# Altium schematic symbol library 18125C225KAT2A.SchLib: 2 symbols
Pins are listed as number, name and electrical type; pins without a type are passive.

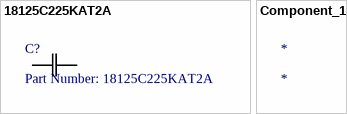
[diagram p0: symbols 18125C225KAT2A to Component_1]

## 18125C225KAT2A
designator C?, comment Part Number: 18125C225KAT2A
No Description Available; Vendor: AVX Corporation; Built_By: EMA_UL_Team; Type: DEV; Manufacturer_Part_Number: 18125C225KAT2A; Copyright: Copyright (C) 2018 Accelerated Designs. All rights reserved; RefDes: RefDes; Value: Value
footprint 1812
pins: 1, 2

## Component_1
designator *